# Altium schematic symbol library CRCW060312K0FKEA.SchLib: 2 symbols
Pins are listed as number, name and electrical type; pins without a type are passive.

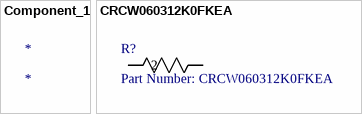
[diagram p0: symbols Component_1 to CRCW060312K0FKEA]

## Component_1
designator *

## CRCW060312K0FKEA
designator R?, comment Part Number: CRCW060312K0FKEA
No Description Available; Vendor: Vishay; Built_By: EMA_UL_Team; Manufacturer_Part_Number: CRCW060312K0FKEA; Copyright: Copyright (C) 2018 Accelerated Designs. All rights reserved; RefDes: RefDes; Type: DEV; Value: Value
footprint RES_CRCW_0603
pins: 1, 2